# EAGLE library part DECADE-LM358-SO-8 (library DECADE-libraries20151104)
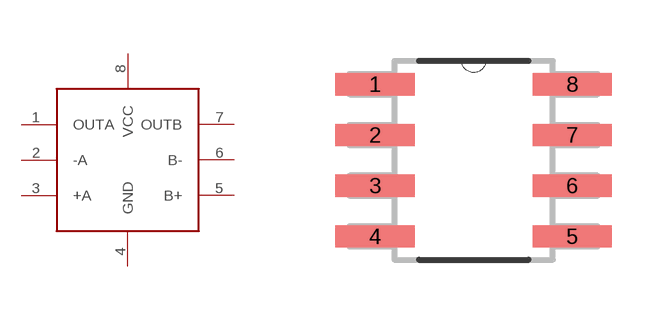
[diagram p20: symbol with the pads of D8; footprint D8]

Designator prefix -

## DECADE-LM358-SO-8  [D8]
1  OUTA
2  -A
3  +A
4  GND
5  B+
6  B-
7  OUTB
8  VCC

## Footprint D8 (pad centres in mm)
smd 1.981 x 0.559: 1 -2.464,1.905; 2 -2.464,0.635; 3 -2.464,-0.635; 4 -2.464,-1.905; 5 2.464,-1.905; 6 2.464,-0.635; 7 2.464,0.635; 8 2.464,1.905